# Altium footprint library D 电源模块.PcbLib: 107 footprints (part 4 of 7)
Each footprint in its own frame and in the unit in brackets; x right, y up, seen from the top. Pads: shape width x height; smd on the part's side, far side on the other; paste and mask are expansions set on the pad; w line width, h text height; cw(c..) or ccw(c..) is an arc to the next point about the centre after c.
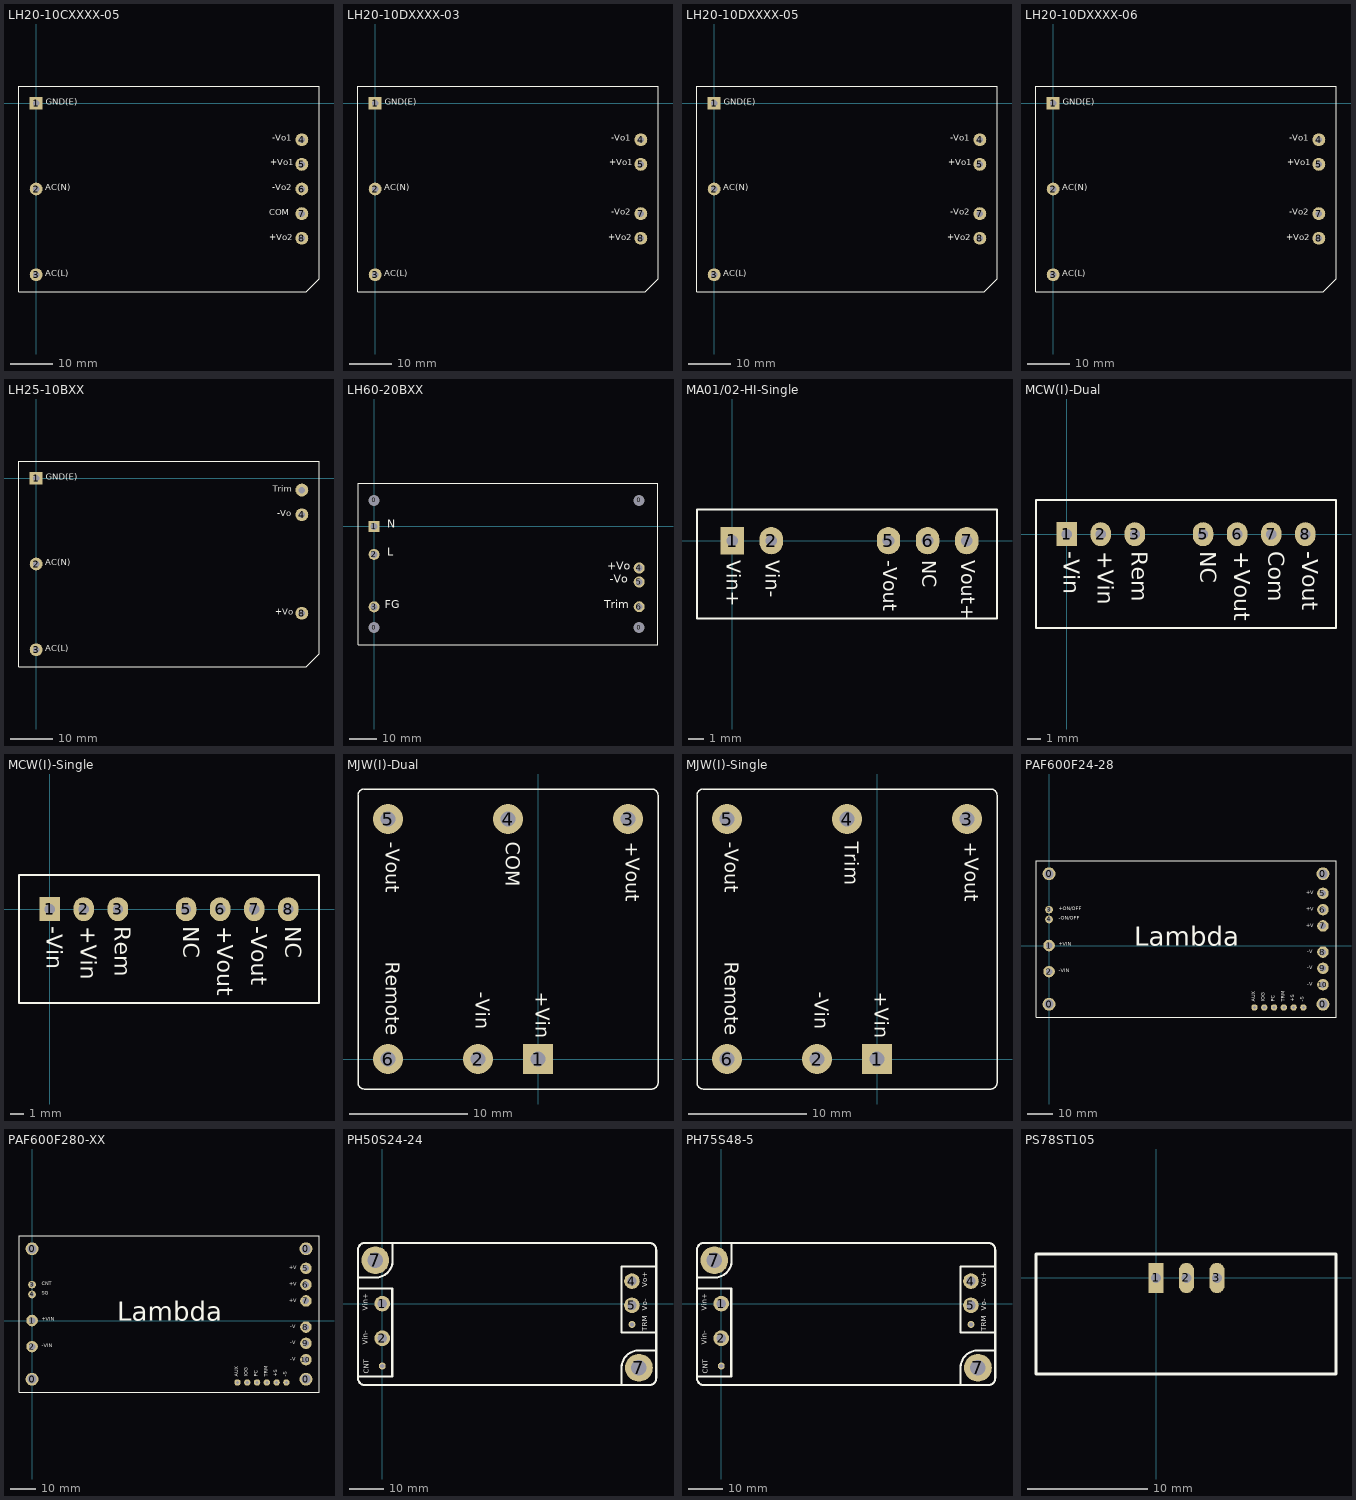
[diagram p3: the footprints below, top view; thin cyan lines are the x and y axes]

## LH20-10CXXXX-05 [mm] "金升阳 20W 高性能小体积标准AC-DC模块(85-265VAC,120-370VDC)"
height 23.5
pads (8):
  rect 3x3 hole 1.5: 1(0,0)
  round 3 hole 1.5: 2(0,-20) 3(0,-40) 4(62,-8.5) 5(62,-14.25) 6(62,-20) 7(62,-25.75) 8(62,-31.5)
Top Overlay:
  lines w0.254: -4,-44 -4,4 66,4 66,-41 63,-44 -4,-44
  text "+Vo2" at 54.356,-32.512 h2.54
  text "COM" at 54.356,-26.67 h2.54
  text "-Vo2" at 55.118,-20.828 h2.54
  text "-Vo1" at 55.118,-9.271 h2.54
  text "AC(L)" at 2.159,-40.894 h2.54
  text "AC(N)" at 2.159,-20.828 h2.54
  text "GND(E)" at 2.286,-0.889 h2.54
  text "+Vo1" at 54.61,-14.986 h2.54
Bottom Overlay:
  text "+Vo2" at 59.436,-32.385 h2.54
  text "COM" at 59.436,-26.67 h2.54
  text "-Vo2" at 59.436,-20.828 h2.54
  text "AC(L)" at 8.128,-40.894 h2.54
  text "AC(N)" at 8.509,-20.828 h2.54
  text "GND(E)" at 10.16,-0.889 h2.54
  text "-Vo1" at 59.436,-9.271 h2.54
  text "+Vo1" at 59.436,-14.986 h2.54

## LH20-10DXXXX-03 [mm] "金升阳 20W 高性能小体积标准AC-DC模块(85-265VAC,120-370VDC)"
height 23.5
pads (7):
  rect 3x3 hole 1.5: 1(0,0)
  round 3 hole 1.5: 2(0,-20) 3(0,-40) 4(62,-8.5) 5(62,-14.25) 7(62,-25.75) 8(62,-31.5)
Top Overlay:
  lines w0.254: -4,-44 -4,4 66,4 66,-41 63,-44 -4,-44
  text "-Vo2" at 55.118,-26.543 h2.54
  text "+Vo2" at 54.356,-32.512 h2.54
  text "-Vo1" at 55.118,-9.271 h2.54
  text "AC(L)" at 2.159,-40.894 h2.54
  text "AC(N)" at 2.159,-20.828 h2.54
  text "GND(E)" at 2.286,-0.889 h2.54
  text "+Vo1" at 54.61,-14.986 h2.54
Bottom Overlay:
  text "-Vo2" at 59.436,-26.543 h2.54
  text "+Vo2" at 59.436,-32.385 h2.54
  text "AC(L)" at 8.128,-40.894 h2.54
  text "AC(N)" at 8.509,-20.828 h2.54
  text "GND(E)" at 10.16,-0.889 h2.54
  text "-Vo1" at 59.436,-9.271 h2.54
  text "+Vo1" at 59.436,-14.986 h2.54

## LH20-10DXXXX-05 [mm] "金升阳 20W 高性能小体积标准AC-DC模块(85-265VAC,120-370VDC)"
height 23.5
pads (7):
  rect 3x3 hole 1.5: 1(0,0)
  round 3 hole 1.5: 2(0,-20) 3(0,-40) 4(62,-8.5) 5(62,-14.25) 7(62,-25.75) 8(62,-31.5)
Top Overlay:
  lines w0.254: -4,-44 -4,4 66,4 66,-41 63,-44 -4,-44
  text "-Vo2" at 55.118,-26.543 h2.54
  text "+Vo2" at 54.356,-32.512 h2.54
  text "-Vo1" at 55.118,-9.271 h2.54
  text "AC(L)" at 2.159,-40.894 h2.54
  text "AC(N)" at 2.159,-20.828 h2.54
  text "GND(E)" at 2.286,-0.889 h2.54
  text "+Vo1" at 54.61,-14.986 h2.54
Bottom Overlay:
  text "-Vo2" at 59.436,-26.543 h2.54
  text "+Vo2" at 59.436,-32.385 h2.54
  text "AC(L)" at 8.128,-40.894 h2.54
  text "AC(N)" at 8.509,-20.828 h2.54
  text "GND(E)" at 10.16,-0.889 h2.54
  text "-Vo1" at 59.436,-9.271 h2.54
  text "+Vo1" at 59.436,-14.986 h2.54

## LH20-10DXXXX-06 [mm] "金升阳 20W 高性能小体积标准AC-DC模块(85-265VAC,120-370VDC)"
height 23.5
pads (7):
  rect 3x3 hole 1.5: 1(0,0)
  round 3 hole 1.5: 2(0,-20) 3(0,-40) 4(62,-8.5) 5(62,-14.25) 7(62,-25.75) 8(62,-31.5)
Top Overlay:
  lines w0.254: -4,-44 63,-44 66,-41 66,4 -4,4 -4,-44
  text "+Vo1" at 54.61,-14.986 h2.54
  text "GND(E)" at 2.286,-0.889 h2.54
  text "AC(N)" at 2.159,-20.828 h2.54
  text "AC(L)" at 2.159,-40.894 h2.54
  text "-Vo1" at 55.118,-9.271 h2.54
  text "+Vo2" at 54.356,-32.512 h2.54
  text "-Vo2" at 55.118,-26.543 h2.54
Bottom Overlay:
  text "+Vo1" at 59.436,-14.986 h2.54
  text "-Vo1" at 59.436,-9.271 h2.54
  text "GND(E)" at 10.16,-0.889 h2.54
  text "AC(N)" at 8.509,-20.828 h2.54
  text "AC(L)" at 8.128,-40.894 h2.54
  text "+Vo2" at 59.436,-32.385 h2.54
  text "-Vo2" at 59.436,-26.543 h2.54

## LH25-10BXX [mm] "金升阳 25 W 高性能小体积标准AC-DC模块(85-265VAC,120-370VDC)"
height 23.5
pads (6):
  rect 3x3 hole 1.5: 1(0,0)
  round 3 hole 1.5: 2(0,-20) 3(0,-40) 4(62,-8.5) 8(62,-31.5) Trim(62,-2.75)
Top Overlay:
  lines w0.254: -4,-44 -4,4 66,4 66,-41 63,-44 -4,-44
  text "+Vo" at 55.753,-32.385 h2.54
  text "-Vo" at 56.261,-9.398 h2.54
  text "Trim" at 55.245,-3.683 h2.54
  text "AC(L)" at 2.159,-40.894 h2.54
  text "AC(N)" at 2.159,-20.828 h2.54
  text "GND(E)" at 2.286,-0.889 h2.54
Bottom Overlay:
  text "AC(L)" at 8.128,-40.894 h2.54
  text "AC(N)" at 8.509,-20.828 h2.54
  text "GND(E)" at 10.16,-0.889 h2.54
  text "Trim" at 59.69,-3.683 h2.54
  text "-Vo" at 59.436,-9.271 h2.54
  text "+Vo" at 59.563,-32.385 h2.54

## LH60-20BXX [mm] "金升阳 60 W 高性能小体积标准AC-DC模块(85-265VAC,120-370VDC)"
height 30
pads (10):
  oct 3x3 hole 4: 0(0,-36.8) 0(0,9.5) 0(96.32,-36.8) 0(96.32,9.5)
  rect 4x4 hole 2.5: 1(0,0)
  round 4 hole 2.5: 2(0,-10.16) 3(0,-29.21) 4(96.32,-15.1) 5(96.32,-20.18) 6(96.32,-29.18)
Top Overlay:
  lines w0.254: -5.85,-42.9 103.15,-42.9 103.15,15.6 -5.85,15.6 -5.85,-42.9
  text "FG" at 3.81,-30.861 h5.08
  text "N" at 4.826,-1.651 h5.08
  text "L" at 4.826,-11.811 h5.08
  text "+Vo" at 84.709,-16.764 h5.08
  text "-Vo" at 85.598,-21.59 h5.08
  text "Trim" at 83.693,-30.734 h5.08
Bottom Overlay:
  text "Trim" at 92.329,-30.734 h5.08
  text "-Vo" at 91.567,-21.717 h5.08
  text "+Vo" at 92.456,-16.891 h5.08
  text "FG" at 9.398,-30.861 h5.08
  text "N" at 7.366,-1.651 h5.08
  text "L" at 7.366,-11.811 h5.08

## MA01/02-HI-Single [mil]
height 472.44
pads (5):
  rect 60x70 hole 30: 1(0,0)
  oval 60x70 hole 30: 2(100,0) 5(400,0) 6(500,0) 7(600,0)
Top Overlay:
  lines w5: -90,-199.53 -90,80 677.72,80 677.72,-199.53 -90,-199.53
  text "NC" at 475,-50 h60
  text "-Vout" at 375,-50 h60
  text "Vout+" at 575,-50 h60
  text "Vin-" at 75,-50 h60
  text "Vin+" at -25,-50 h60
Bottom Overlay:
  text "Vin+" at 25,-50 h60
  text "Vin-" at 125,-50 h60
  text "Vout+" at 625,-50 h60
  text "Vout-" at 425,-50 h60
  text "NC" at 525,-50 h60

## MCW(I)-Dual [mil]
height 472.44
pads (7):
  rect 60x70 hole 30: 1(0,0)
  oval 60x70 hole 30: 2(100,0) 3(200,0) 5(400,0) 6(500,0) 7(600,0) 8(700,0)
Top Overlay:
  lines w5: -90,-275 790,-275 790,100 -90,100 -90,-275
  text "Rem" at 175,-50 h80
  text "-Vin" at -25,-50 h80
  text "+Vin" at 75,-50 h80
  text "NC" at 375,-50 h80
  text "+Vout" at 475,-50 h80
  text "Com" at 575,-50 h80
  text "-Vout" at 675,-50 h80
Bottom Overlay:
  text "-Vout" at 725,-50 h80
  text "Com" at 625,-50 h80
  text "+Vout" at 525,-50 h80
  text "NC" at 425,-50 h80
  text "Rem" at 225,-50 h80
  text "+Vin" at 125,-50 h80
  text "-Vin" at 25,-50 h80

## MCW(I)-Single [mil]
height 472.44
pads (7):
  rect 60x70 hole 30: 1(0,0)
  oval 60x70 hole 30: 2(100,0) 3(200,0) 5(400,0) 6(500,0) 7(600,0) 8(700,0)
Top Overlay:
  lines w5: -90,-275 -90,100 790,100 790,-275 -90,-275
  text "NC" at 675,-50 h80
  text "-Vout" at 575,-50 h80
  text "+Vout" at 475,-50 h80
  text "NC" at 375,-50 h80
  text "+Vin" at 75,-50 h80
  text "-Vin" at -25,-50 h80
  text "Rem" at 175,-50 h80
Bottom Overlay:
  text "-Vin" at 25,-50 h80
  text "+Vin" at 125,-50 h80
  text "Rem" at 225,-50 h80
  text "NC" at 425,-50 h80
  text "+Vout" at 525,-50 h80
  text "-Vout" at 625,-50 h80
  text "NC" at 725,-50 h80

## MJW(I)-Dual [mm]
height 10.16
pads (6):
  rect 2.54x2.54 hole 1.3: 1(0,0)
  round 2.54 hole 1.3: 2(-5.08,0) 3(7.62,20.32) 4(-2.54,20.32) 5(-12.7,20.32) 6(-12.7,0)
Top Overlay:
  lines w0.127: -15.24,-2.032 ccw(c-14.732,-2.032) -14.732,-2.54 9.652,-2.54 ccw(c9.652,-2.032) 10.16,-2.032 10.16,22.352 ccw(c9.652,22.352) 9.652,22.86 -14.732,22.86 ccw(c-14.732,22.352) -15.24,22.352 -15.24,-2.032
  text "-Vout" at -13.335,18.415 h2.03
  text "COM" at -3.175,18.415 h2.03
  text "-Vin" at -5.715,5.715 h2.03
  text "+Vout" at 6.985,18.415 h2.03
  text "+Vin" at -0.635,5.715 h2.03
  text "Remote" at -13.335,8.255 h2.03
Bottom Overlay:
  text "-Vin" at -4.445,5.715 h2.03
  text "+Vout" at 8.255,18.288 h2.03
  text "COM" at -1.905,18.415 h2.03
  text "-Vout" at -12.065,18.415 h2.03
  text "+Vin" at 0.635,5.715 h2.03
  text "Remote" at -12.065,8.255 h2.03

## MJW(I)-Single [mm]
height 10.16
pads (6):
  rect 2.54x2.54 hole 1.3: 1(0,0)
  round 2.54 hole 1.3: 2(-5.08,0) 3(7.62,20.32) 4(-2.54,20.32) 5(-12.7,20.32) 6(-12.7,0)
Top Overlay:
  lines w0.127: -15.24,-2.032 ccw(c-14.732,-2.032) -14.732,-2.54 9.652,-2.54 ccw(c9.652,-2.032) 10.16,-2.032 10.16,22.352 ccw(c9.652,22.352) 9.652,22.86 -14.732,22.86 ccw(c-14.732,22.352) -15.24,22.352 -15.24,-2.032
  text "Remote" at -13.335,8.255 h2.03
  text "+Vin" at -0.635,5.715 h2.03
  text "+Vout" at 6.985,18.415 h2.03
  text "-Vin" at -5.715,5.715 h2.03
  text "Trim" at -3.175,18.415 h2.03
  text "-Vout" at -13.335,18.415 h2.03
Bottom Overlay:
  text "Remote" at -12.065,8.255 h2.03
  text "+Vin" at 0.635,5.715 h2.03
  text "-Vout" at -12.065,18.415 h2.03
  text "Trim" at -1.905,18.415 h2.03
  text "+Vout" at 8.255,18.288 h2.03
  text "-Vin" at -4.445,5.715 h2.03

## PAF600F24-28 [mm] "LAMBDA  DC-DC电源模块 (全砖型) 602W Input:19-36 Output:28"
height 12.7
pads (20):
  round 5 hole 3.5: 0(0,-22.86) 0(0,27.94) 0(106.68,-22.86) 0(106.68,27.94)
  round 4.5 hole 2.5: 1(0,0) 2(0,-10.16) 5(106.68,20.32) 6(106.68,13.97) 7(106.68,7.62) 8(106.68,-2.54) 9(106.68,-8.89) 10(106.68,-15.24)
  round 3 hole 1.5: 3(0,13.97) 4(0,10.16)
  round 2.5 hole 1.2: 11(80.01,-24.13) 12(83.82,-24.13) 13(87.63,-24.13) 14(91.44,-24.13) 15(95.25,-24.13) 16(99.06,-24.13)
Top Overlay:
  lines w0.254: -5.08,-27.94 111.76,-27.94 111.76,33.02 -5.08,33.02 -5.08,-27.94
  text "Lambda" at 33.147,-2.54 h12.7
  text "+S" at 96.012,-21.844 h2.54
  text "PC" at 88.392,-21.971 h2.54
  text "-VIN" at 3.81,-11.049 h2.54
  text "+VIN" at 3.81,-0.635 h2.54
  text "-ON/OFF" at 3.81,9.398 h2.54
  text "+ON/OFF" at 3.81,13.081 h2.54
  text "-S" at 99.822,-21.844 h2.54
  text "-V" at 100.584,-3.556 h2.54
  text "+V" at 100.076,12.954 h2.54
  text "+V" at 100.076,19.304 h2.54
  text "TRM" at 92.329,-21.844 h2.54
  text "IOG" at 84.582,-21.844 h2.54
  text "AUX" at 80.899,-21.844 h2.54
  text "-V" at 100.584,-16.256 h2.54
  text "-V" at 100.584,-9.906 h2.54
  text "+V" at 100.076,6.604 h2.54
Bottom Overlay:
  drawing of 211 lines, arcs and shapes, not listed
  text "Lambda" at 33.401,4.699 h12.7
  text "+S" at 96.012,-19.304 h2.54
  text "PC" at 88.392,-19.05 h2.54
  text "-VIN" at 3.81,-9.398 h2.54
  text "+VIN" at 3.81,1.016 h2.54
  text "-ON/OFF" at 3.81,11.049 h2.54
  text "+ON/OFF" at 3.81,14.732 h2.54
  text "-V" at 100.584,-1.905 h2.54
  text "+V" at 100.076,20.955 h2.54
  text "TRM" at 92.329,-17.145 h2.54
  text "IOG" at 84.582,-18.034 h2.54
  text "AUX" at 80.899,-17.272 h2.54
  text "-S" at 99.822,-19.812 h2.54
  text "-V" at 100.584,-14.605 h2.54
  text "-V" at 100.584,-8.255 h2.54
  text "+V" at 100.076,8.255 h2.54
  text "+V" at 100.076,14.605 h2.54

## PAF600F280-XX [mm] "LAMBDA  DC-DC电源模块 (全砖型) 600W Input:200-400"
height 12.7
pads (20):
  round 5 hole 3.5: 0(0,-22.86) 0(0,27.94) 0(106.68,-22.86) 0(106.68,27.94)
  round 4.5 hole 2.5: 1(0,0) 2(0,-10.16) 5(106.68,20.32) 6(106.68,13.97) 7(106.68,7.62) 8(106.68,-2.54) 9(106.68,-8.89) 10(106.68,-15.24)
  round 3 hole 1.5: 3(0,13.97) 4(0,10.16)
  round 2.5 hole 1.2: 11(80.01,-24.13) 12(83.82,-24.13) 13(87.63,-24.13) 14(91.44,-24.13) 15(95.25,-24.13) 16(99.06,-24.13)
Top Overlay:
  lines w0.254: -5.08,-27.94 111.76,-27.94 111.76,33.02 -5.08,33.02 -5.08,-27.94
  text "Lambda" at 33.147,-2.54 h12.7
  text "+S" at 96.012,-21.844 h2.54
  text "PC" at 88.392,-21.971 h2.54
  text "-VIN" at 3.81,-11.049 h2.54
  text "+VIN" at 3.81,-0.635 h2.54
  text "SG" at 3.81,9.398 h2.54
  text "CNT" at 3.81,13.081 h2.54
  text "-S" at 99.822,-21.844 h2.54
  text "-V" at 100.584,-3.556 h2.54
  text "+V" at 100.076,12.954 h2.54
  text "+V" at 100.076,19.304 h2.54
  text "TRM" at 92.329,-21.844 h2.54
  text "IOG" at 84.582,-21.844 h2.54
  text "AUX" at 80.899,-21.844 h2.54
  text "-V" at 100.584,-16.256 h2.54
  text "-V" at 100.584,-9.906 h2.54
  text "+V" at 100.076,6.604 h2.54
Bottom Overlay:
  drawing of 211 lines, arcs and shapes, not listed
  text "Lambda" at 33.401,4.699 h12.7
  text "+S" at 96.012,-19.304 h2.54
  text "PC" at 88.392,-19.05 h2.54
  text "-VIN" at 3.81,-9.398 h2.54
  text "+VIN" at 3.81,1.016 h2.54
  text "SG" at 3.81,11.049 h2.54
  text "CNT" at 3.81,14.732 h2.54
  text "-V" at 100.584,-1.905 h2.54
  text "+V" at 100.076,20.955 h2.54
  text "TRM" at 92.329,-17.145 h2.54
  text "IOG" at 84.582,-18.034 h2.54
  text "AUX" at 80.899,-17.272 h2.54
  text "-S" at 99.822,-19.812 h2.54
  text "-V" at 100.584,-14.605 h2.54
  text "-V" at 100.584,-8.255 h2.54
  text "+V" at 100.076,8.255 h2.54
  text "+V" at 100.076,14.605 h2.54

## PH50S24-24 [mm] "LAMBDA  DC-DC电源模块 50W Input:24V Output:24V"
height 12.7
pads (8):
  round 4.5 hole 2.7: 1(0,0) 2(0,-10) 4(72,6.5) 5(72,-0.5)
  round 2 hole 1.2: 3(0,-18) 6(72,-6)
  round 8 hole 4.5: 7(-2,12.5) 7(74,-18.5)
Top Overlay:
  lines w0.6: -7,7.5 -2,7.5 ; -6.806,4.36 2.88,4.36 2.88,-21.04 -6.701,-21.04 ; -1.867,7.489 ccw(c-2,12.487) 3,12.5 3,17.5 ; 69,-23.5 69,-18.5 cw(c74,-18.487) 73.867,-13.489 ; 74,-13.5 79,-13.5 ; 78.701,10.71 68.92,10.71 68.92,-8.34 78.806,-8.34 ; -7,-21.5 ccw(c-5,-21.5) -5,-23.5 77,-23.5 ccw(c77,-21.5) 79,-21.5 79,15.5 ccw(c77,15.5) 77,17.5 -5,17.5 ccw(c-5,15.5) -7,15.5 -7,-21.5
  text "TRM" at 76.962,-8.001 h2.54
  text "Vo-" at 76.962,-2.032 h2.54
  text "Vo+" at 76.962,4.699 h2.54
  text "Vin+" at -3.556,-2.032 h2.54
  text "Vin-" at -3.556,-11.938 h2.54
  text "CNT" at -3.302,-20.193 h2.54
Bottom Overlay:
  lines w0.6: -7,-21.5 ccw(c-5,-21.5) -5,-23.5 ; -7,-20.5 -7,-19 ; -7,-17.5 -7,-16 ; -7,-14.5 -7,-13 ; -7,-11.5 -7,-10 ; -7,-8.5 -7,-7 ; -7,-5.5 -7,-4 ; -7,-2.5 -7,-1 ; -7,0.5 -7,2 ; -7,3.5 -7,5 ; -7,6.5 -7,8 ; -7,9.5 -7,11 ; -7,12.5 -7,14 ; -7,15.5 cw(c-5,15.5) -5,17.5 ; -4,-23.5 -2.5,-23.5 ; -4,17.5 -2.5,17.5 ; -1,-23.5 0.5,-23.5 ; -1,17.5 0.5,17.5 ; 2,-23.5 3.5,-23.5 ; 2,17.5 3.5,17.5 ; 5,-23.5 6.5,-23.5 ; 5,17.5 6.5,17.5 ; 8,-23.5 9.5,-23.5 ; 8,17.5 9.5,17.5 ; 11,-23.5 12.5,-23.5 ; 11,17.5 12.5,17.5 ; 14,-23.5 15.5,-23.5 ; 14,17.5 15.5,17.5 ; 17,-23.5 18.5,-23.5 ; 17,17.5 18.5,17.5 ; 20,-23.5 21.5,-23.5 ; 20,17.5 21.5,17.5 ; 23,-23.5 24.5,-23.5 ; 23,17.5 24.5,17.5 ; 26,-23.5 27.5,-23.5 ; 26,17.5 27.5,17.5 ; 29,-23.5 30.5,-23.5 ; 29,17.5 30.5,17.5 ; 32,-23.5 33.5,-23.5 ; 32,17.5 33.5,17.5 ; 35,-23.5 36.5,-23.5 ; 35,17.5 36.5,17.5 ; 38,-23.5 39.5,-23.5 ; 38,17.5 39.5,17.5 ; 41,-23.5 42.5,-23.5 ; 41,17.5 42.5,17.5 ; 44,-23.5 45.5,-23.5 ; 44,17.5 45.5,17.5 ; 47,-23.5 48.5,-23.5 ; 47,17.5 48.5,17.5 ; 50,-23.5 51.5,-23.5 ; 50,17.5 51.5,17.5 ; 53,-23.5 54.5,-23.5 ; 53,17.5 54.5,17.5 ; 56,-23.5 57.5,-23.5 ; 56,17.5 57.5,17.5 ; 59,-23.5 60.5,-23.5 ; 59,17.5 60.5,17.5 ; 62,-23.5 63.5,-23.5 ; 62,17.5 63.5,17.5 ; 65,-23.5 66.5,-23.5 ; 65,17.5 66.5,17.5 ; 68,-23.5 69.5,-23.5 ; 68,17.5 69.5,17.5 ; 71,-23.5 72.5,-23.5 ; 71,17.5 72.5,17.5 ; 74,-23.5 75.5,-23.5 ; 74,17.5 75.5,17.5 ; 77,-23.5 ccw(c77,-21.5) 79,-21.5 ; 77,17.5 cw(c77,15.5) 79,15.5 ; 79,-20.5 79,-19 ; 79,-17.5 79,-16 ; 79,-14.5 79,-13 ; 79,-11.5 79,-10 ; 79,-8.5 79,-7 ; 79,-5.5 79,-4 ; 79,-2.5 79,-1 ; 79,0.5 79,2 ; 79,3.5 79,5 ; 79,6.5 79,8 ; 79,9.5 79,11 ; 79,12.5 79,14
  text "TRM" at 76.962,-3.302 h2.54
  text "Vo-" at 76.962,1.143 h2.54
  text "Vo+" at 76.962,8.509 h2.54
  text "Vin+" at -3.556,2.413 h2.54
  text "Vin-" at -3.556,-8.001 h2.54
  text "CNT" at -3.302,-15.621 h2.54

## PH75S48-5 [mm] "LAMBDA  DC-DC电源模块 75W Input:48V Output:5V"
height 12.7
pads (8):
  round 4.5 hole 2.7: 1(0,0) 2(0,-10) 4(72,6.5) 5(72,-0.5)
  round 2 hole 1.2: 3(0,-18) 6(72,-6)
  round 8 hole 4.5: 7(-2,12.5) 7(74,-18.5)
Top Overlay:
  lines w0.6: -7,7.5 -2,7.5 ; -6.806,4.36 2.88,4.36 2.88,-21.04 -6.701,-21.04 ; -1.867,7.489 ccw(c-2,12.487) 3,12.5 3,17.5 ; 69,-23.5 69,-18.5 cw(c74,-18.487) 73.867,-13.489 ; 74,-13.5 79,-13.5 ; 78.701,10.71 68.92,10.71 68.92,-8.34 78.806,-8.34 ; -7,-21.5 ccw(c-5,-21.5) -5,-23.5 77,-23.5 ccw(c77,-21.5) 79,-21.5 79,15.5 ccw(c77,15.5) 77,17.5 -5,17.5 ccw(c-5,15.5) -7,15.5 -7,-21.5
  text "TRM" at 76.962,-8.001 h2.54
  text "Vo-" at 76.962,-2.032 h2.54
  text "Vo+" at 76.962,4.699 h2.54
  text "Vin+" at -3.556,-2.032 h2.54
  text "Vin-" at -3.556,-11.938 h2.54
  text "CNT" at -3.302,-20.193 h2.54
Bottom Overlay:
  lines w0.6: -7,-21.5 ccw(c-5,-21.5) -5,-23.5 ; -7,-20.5 -7,-19 ; -7,-17.5 -7,-16 ; -7,-14.5 -7,-13 ; -7,-11.5 -7,-10 ; -7,-8.5 -7,-7 ; -7,-5.5 -7,-4 ; -7,-2.5 -7,-1 ; -7,0.5 -7,2 ; -7,3.5 -7,5 ; -7,6.5 -7,8 ; -7,9.5 -7,11 ; -7,12.5 -7,14 ; -7,15.5 cw(c-5,15.5) -5,17.5 ; -4,-23.5 -2.5,-23.5 ; -4,17.5 -2.5,17.5 ; -1,-23.5 0.5,-23.5 ; -1,17.5 0.5,17.5 ; 2,-23.5 3.5,-23.5 ; 2,17.5 3.5,17.5 ; 5,-23.5 6.5,-23.5 ; 5,17.5 6.5,17.5 ; 8,-23.5 9.5,-23.5 ; 8,17.5 9.5,17.5 ; 11,-23.5 12.5,-23.5 ; 11,17.5 12.5,17.5 ; 14,-23.5 15.5,-23.5 ; 14,17.5 15.5,17.5 ; 17,-23.5 18.5,-23.5 ; 17,17.5 18.5,17.5 ; 20,-23.5 21.5,-23.5 ; 20,17.5 21.5,17.5 ; 23,-23.5 24.5,-23.5 ; 23,17.5 24.5,17.5 ; 26,-23.5 27.5,-23.5 ; 26,17.5 27.5,17.5 ; 29,-23.5 30.5,-23.5 ; 29,17.5 30.5,17.5 ; 32,-23.5 33.5,-23.5 ; 32,17.5 33.5,17.5 ; 35,-23.5 36.5,-23.5 ; 35,17.5 36.5,17.5 ; 38,-23.5 39.5,-23.5 ; 38,17.5 39.5,17.5 ; 41,-23.5 42.5,-23.5 ; 41,17.5 42.5,17.5 ; 44,-23.5 45.5,-23.5 ; 44,17.5 45.5,17.5 ; 47,-23.5 48.5,-23.5 ; 47,17.5 48.5,17.5 ; 50,-23.5 51.5,-23.5 ; 50,17.5 51.5,17.5 ; 53,-23.5 54.5,-23.5 ; 53,17.5 54.5,17.5 ; 56,-23.5 57.5,-23.5 ; 56,17.5 57.5,17.5 ; 59,-23.5 60.5,-23.5 ; 59,17.5 60.5,17.5 ; 62,-23.5 63.5,-23.5 ; 62,17.5 63.5,17.5 ; 65,-23.5 66.5,-23.5 ; 65,17.5 66.5,17.5 ; 68,-23.5 69.5,-23.5 ; 68,17.5 69.5,17.5 ; 71,-23.5 72.5,-23.5 ; 71,17.5 72.5,17.5 ; 74,-23.5 75.5,-23.5 ; 74,17.5 75.5,17.5 ; 77,-23.5 ccw(c77,-21.5) 79,-21.5 ; 77,17.5 cw(c77,15.5) 79,15.5 ; 79,-20.5 79,-19 ; 79,-17.5 79,-16 ; 79,-14.5 79,-13 ; 79,-11.5 79,-10 ; 79,-8.5 79,-7 ; 79,-5.5 79,-4 ; 79,-2.5 79,-1 ; 79,0.5 79,2 ; 79,3.5 79,5 ; 79,6.5 79,8 ; 79,9.5 79,11 ; 79,12.5 79,14
  text "TRM" at 76.962,-3.302 h2.54
  text "Vo-" at 76.962,1.143 h2.54
  text "Vo+" at 76.962,8.509 h2.54
  text "Vin+" at -3.556,2.413 h2.54
  text "Vin-" at -3.556,-8.001 h2.54
  text "CNT" at -3.302,-15.621 h2.54

## PS78ST105 [mil] "TO-220封装，Input:7-25V,Output:5V ,7.5W降压型DC-DC电源模块"
height 1000
pads (3):
  rect 50x100 hole 32: 1(0,0)
  oval 50x100 hole 32: 2(100,0) 3(200,0)
Top Overlay:
  lines w10: -393.7,-314.96 590.55,-314.96 590.55,78.74 -393.7,78.74 -393.7,-314.96